# EAGLE library part 1X06 (library magzor-headers)
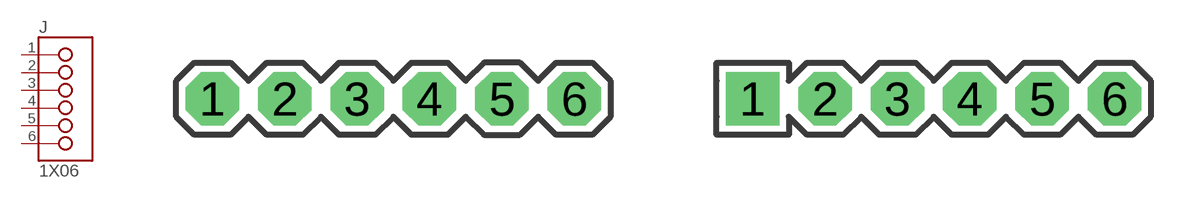
[diagram p0: symbol with the pads of P0.1"-1X06; footprints P0.1"-1X06, P0.1"-1X06-1SQ]

Designator prefix J

## 1X06-0.1"  [P0.1"-1X06]
1  1
2  2
3  3
4  4
5  5
6  6

## 1X06-0.1"-1SQ  [P0.1"-1X06-1SQ]
Pads as for P0.1"-1X06

## Footprint P0.1"-1X06 (pad centres in mm)
drill 1.016 pad 1.88 octagon: 1 -6.35,0; 2 -3.81,0; 3 -1.27,0; 4 1.27,0; 5 3.81,0; 6 6.35,0

## Footprint P0.1"-1X06-1SQ (pad centres in mm)
drill 1.016 pad 1.88 square: 1 -6.35,0
drill 1.016 pad 1.88 octagon: 2 -3.81,0; 3 -1.27,0; 4 1.27,0; 5 3.81,0; 6 6.35,0